# Altium footprint library ES_Pcb.PcbLib: 383 footprints (part 2 of 24)
Each footprint in its own frame and in the unit in brackets; x right, y up, seen from the top. Pads: shape width x height; smd on the part's side, far side on the other; paste and mask are expansions set on the pad; w line width, h text height; cw(c..) or ccw(c..) is an arc to the next point about the centre after c.
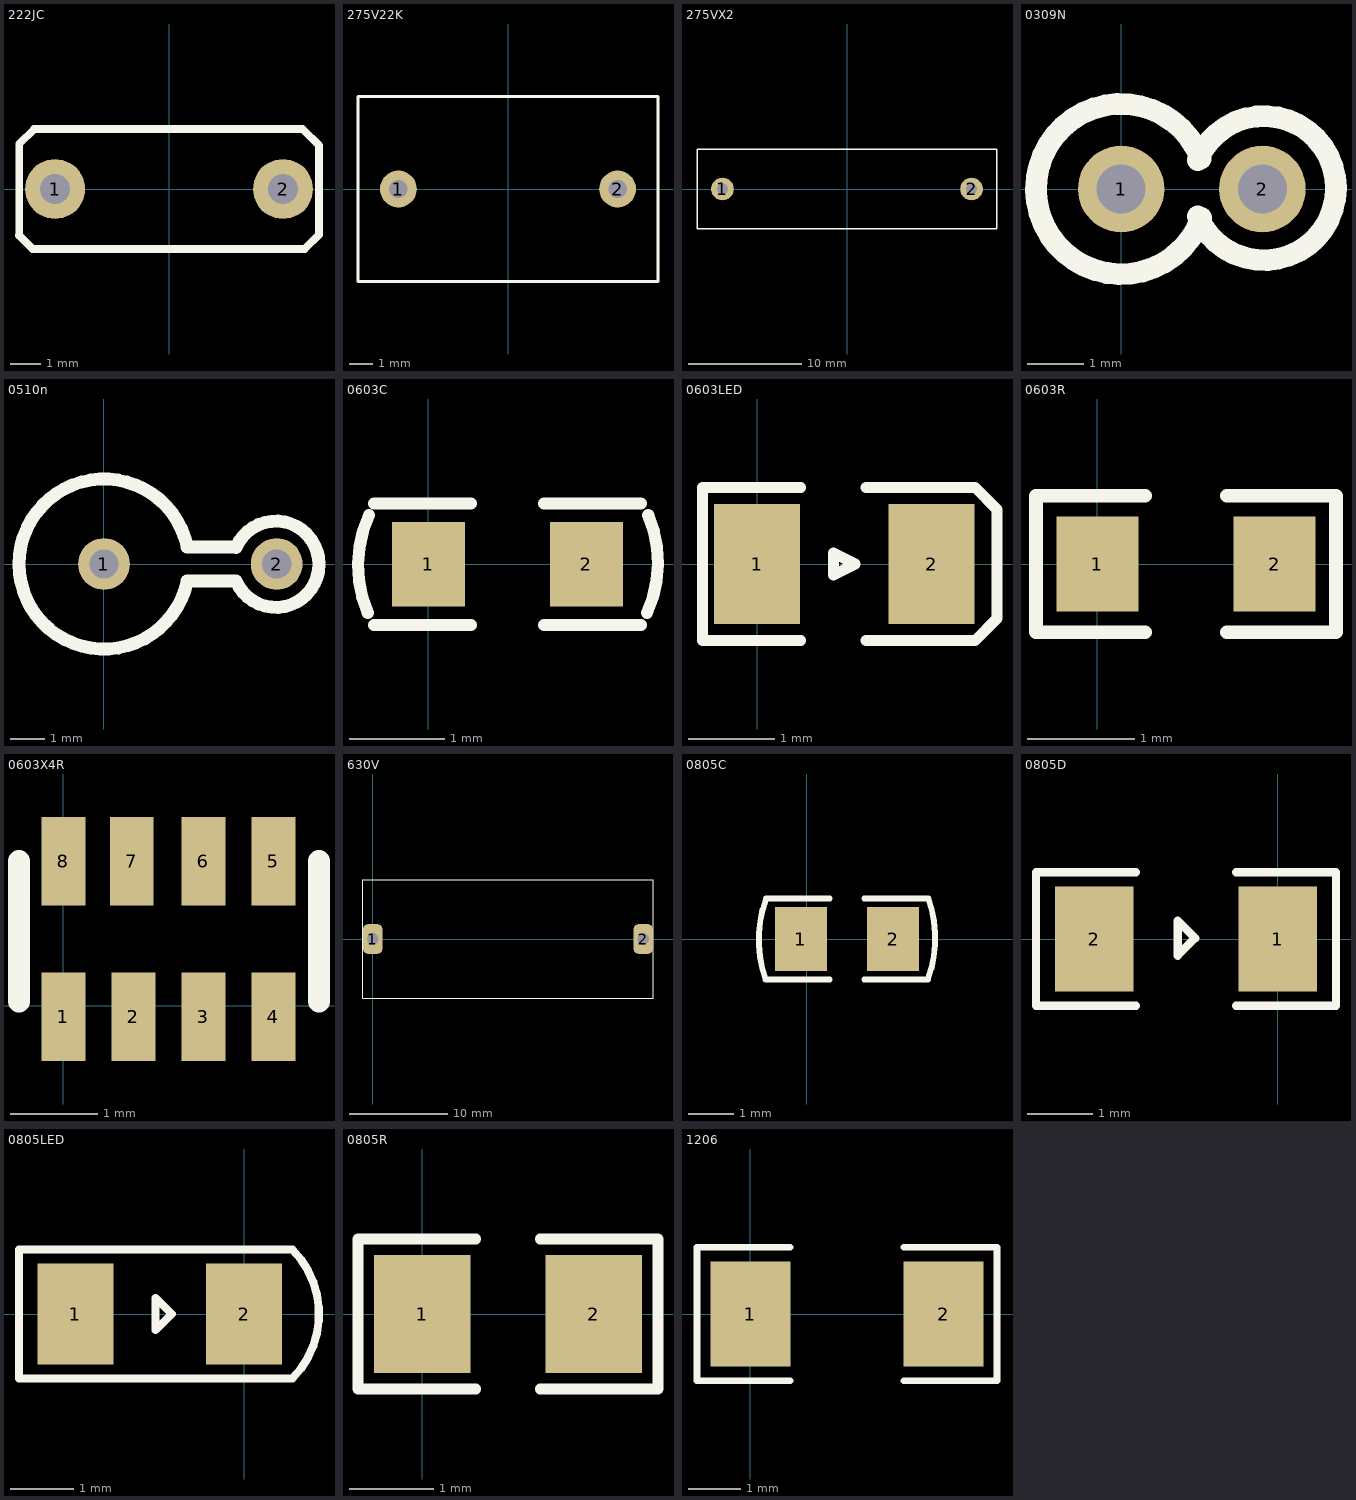
[diagram p1: the footprints below, top view; thin cyan lines are the x and y axes]

## 220V_To_5V_1A [mm]

## 222JC [mm]
pads (2):
  round 2 hole 1: 1(-3.8,0) 2(3.8,0)
Top Overlay:
  lines w0.254: -5.004,-1.549 -4.553,-2 -4.409,-2 -3.099,-2 4.521,-2 4.528,-2 5,-1.528 5,1.448 5,1.452 4.452,2 4.405,2 3.734,2 -2.896,2 -4.333,2 -4.502,2 -5,1.502 -5,-1.549

## 275V22K [mm]
pads (2):
  round 1.6 hole 0.8: 1(-4.75,0) 2(4.75,0)
Top Overlay:
  lines w0.127: -6.5,-4 6.5,-4 6.5,4 -6.5,4 -6.5,-4

## 275VX2 [mm]
pads (2):
  round 2 hole 1: 1(-11,0) 2(11,0)
Top Overlay:
  lines w0.127: -13.25,-3.5 13.25,-3.5 13.25,3.5 -13.25,3.5 -13.25,-3.5

## 0309N [mil]
pads (2):
  round 60 hole 34: 1(0,0) 2(98,0)
Top Overlay:
  lines w15: 53,-19 ccw(c99.01,0.58) 53,20.16 ; 55.2,20.99 ccw(c0,0) 55.59,-19.93

## 0510n [mil]
pads (2):
  round 60 hole 34: 1(0,0) 2(200,0)
Top Overlay:
  lines w15: 96.23,19.58 153,19.58 ; 96.23,20.69 ccw(c0,0) 96.31,-20.28 ; 96.31,-19.88 153,-19.88 ccw(c199.01,-0.3) 153,19.27

## 0603C [mil]
pads (2):
  rect 30x35 smd: 1(0,0) 2(65,0)
Top Overlay:
  lines w5: -25,-20 cw(c20.47,-0.44) -24.52,20.21 ; -22.5,-25 17.5,-25 ; -22.5,25 17.5,25 ; 47.5,-25 87.5,-25 ; 47.5,25 87.5,25 ; 90,-20 ccw(c45.01,0.64) 90.48,20.21

## 0603LED [mm]
pads (2):
  rect 1x1.4 smd: 1(0,0) 2(2.032,0)
Top Overlay:
  lines w0.127: 0.508,-0.889 -0.635,-0.889 -0.635,0.889 0.508,0.889 ; 1.27,-0.889 2.54,-0.889 2.794,-0.635 2.794,0 2.794,0.635 2.54,0.889 1.27,0.889 ; 0.889,-0.127 1.143,0 0.889,0.127 0.889,-0.127

## 0603R [mil]
pads (2):
  rect 30x35 smd: 1(0,0) 2(65,0)
Top Overlay:
  lines w5: 17.5,-25 -22.5,-25 -22.5,25 17.5,25 ; 47.5,-25 87.5,-25 87.5,25 47.5,25

## 0603X4R [mil]
pads (8):
  rect 19.68x40 smd: 1(0,-5) 2(31.5,-5) 3(62.99,-5) 4(94.49,-5) 5(94.49,65) 6(62.99,65) 7(30.71,65) 8(0,65)
Top Overlay:
  lines w10: -20,2.01 -20,65 ; 115,2.01 115,65

## 630V [mm]
pads (2):
  rrect50% 2x3 hole 1.2: 1(0,0) 2(27.5,0)
Top Overlay:
  lines w0.127: -1,-6 -1,6 28.5,6 28.5,-6 -1,-6

## 0805C [mil]
pads (2):
  rect 45x55 smd: 1(-5,0) 2(75,0)
Top Overlay:
  lines w5: -35.41,-35.14 cw(c61.72,-0.63) -35,35 20,35 ; -35,-35 20,-35 ; 50,-35 105,-35 ccw(c8.28,0.63) 105.41,35.14 ; 50,35 105,35

## 0805D [mm]
pads (2):
  rect 1.2x1.6 smd: 1(0,0) 2(-2.794,0)
Top Overlay:
  lines w0.127: -2.159,-1.016 -3.683,-1.016 -3.683,1.016 -2.159,1.016 ; -0.635,-1.016 0.889,-1.016 0.889,1.016 -0.635,1.016 ; -1.524,-0.254 -1.257,0.013 -1.524,0.28 -1.524,-0.254

## 0805LED [mm]
pads (2):
  rect 1.2x1.6 smd: 1(-2.667,0) 2(0,0)
Top Overlay:
  lines w0.127: -3.556,-1.016 0.762,-1.016 ccw(c-0.254,0) 0.762,1.016 -3.556,1.016 -3.556,-1.016 ; -1.397,-0.254 -1.397,0.254 -1.143,0 -1.397,-0.254

## 0805R [mil]
pads (2):
  rect 45x55 smd: 1(0,0) 2(80,0)
Top Overlay:
  lines w5: 25,-35 -30,-35 -30,35 25,35 ; 55,-35 110,-35 110,35 55,35

## 1206 [mil]
pads (2):
  rect 60x78.74 smd: 1(0,0) 2(145,0)
Top Overlay:
  lines w5: 30,-50 -40,-50 -40,50 30,50 ; 115,-50 185,-50 185,50 115,50